# Altium schematic symbol library copal-switches.SchLib: 4 symbols
Pins are listed as number, name and electrical type; pins without a type are passive.

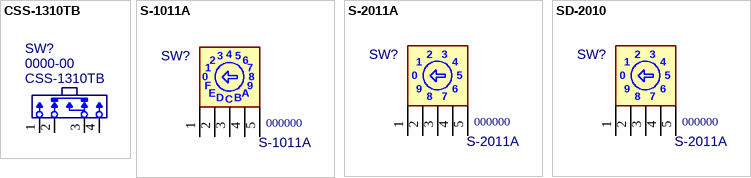
[diagram p0: symbols CSS-1310TB to SD-2010]

## CSS-1310TB
designator SW?, comment 0000-00  value CSS-1310TB
Slide Switch - 1 Pole 3 Positions - 100mA 12V; MF: Copal; PN: 0000-00; ExtraInfo: *; Package: SMT
footprint CSS-1310TB (SP3T - Compact Slide Switch)
pins: 1, 2, 3, 4

## S-1011A
designator SW?, comment 000000  value S-1011A
Rotary DIP Switch, 16 Pos, Hex; MF: Copal; PN: 000000; MF PN: S-1011A; Package: PTH; ExtraInfo: *
footprint S-1011A (Rotary DIP switch 16 pos.)
pins: 1 A1, 2 A2, 3 A3, 4 B3, 5 B2
text: 6; 7; 0; 8; F; 9; E; A; D; C; B

## S-2011A
designator SW?, comment 000000  value S-2011A
Rotary DIP Switch, 10 Pos, BCD; MF: Copal; PN: 000000; MF PN: S-2011A; Package: PTH; ExtraInfo: *
footprint S-2011A (Rotary DIP switch 10 pos.)
pins: 1 A1, 2 A2, 3 A3, 4 B3, 5 B2
text: 0; 9; 6; 8; 7

## SD-2010
designator SW?, comment 000000  value S-2011A
Rotary DIP Switch, 10 Pos, BCD; MF: Copal; PN: 000000; MF PN: S-2011A; Package: PTH; ExtraInfo: *
footprint SD-2010 (Rotary DIP switch 10 pos.)
pins: 1 A1, 2 A2, 3 A3, 4 B3, 5 B2
text: 0; 9; 6; 8; 7